# Altium integrated library Capacitor - Ceramic - Sumsung.IntLib: 1421 symbols (part 12 of 22)
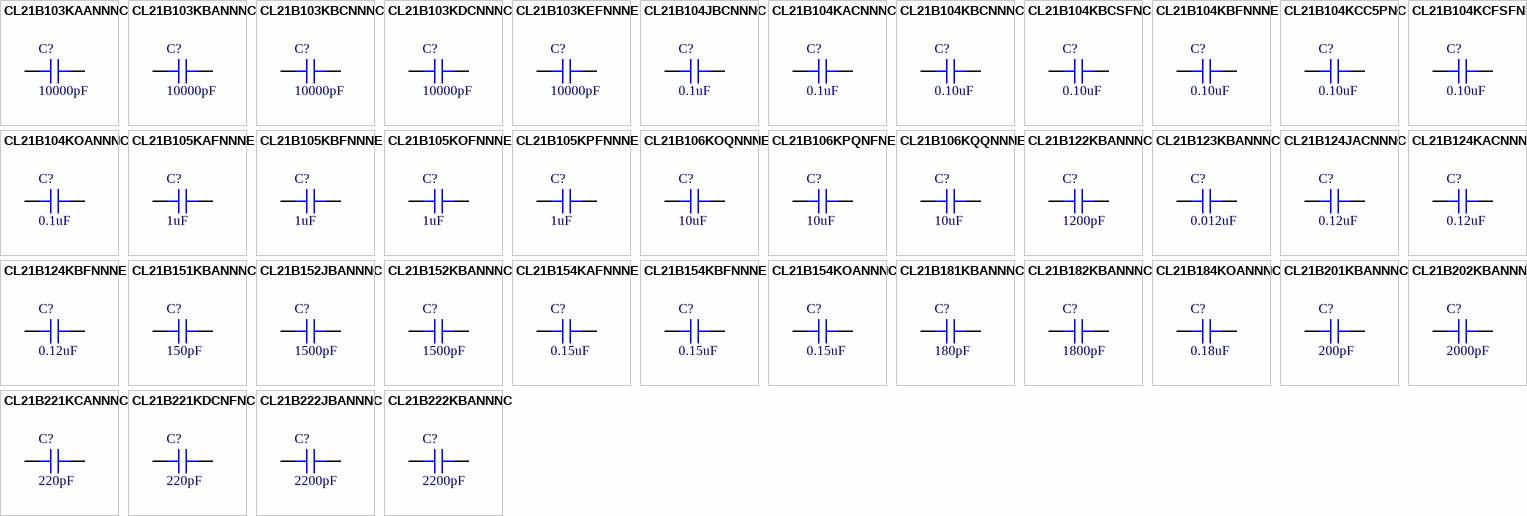
[diagram p46: symbols CL21B103KAANNNC to CL21B222KBANNNC]

## CL21B105KPFNNNE
designator C?, comment 1uF
CAP CER 1UF 10V X7R 0805; Part Number: CL21B105KPFNNNE; Manufacturer: Samsung Electro-Mechanics America, Inc.; TemperatureRange: -55C ~ 125C; Tolerance: 10%; Value: 1uF; PartId: 5813; Supplier 1: Digi-Key; Supplier Part Number 1: 1276-1275-2-ND; ComponentLink1Description: Datasheet; ComponentLink1URL: http://www.samsungsem.com/kr/support/product-search/mlcc/CL21B105KPFNNNE.jsp; ComponentLink2Description: Digi-Key listing; ComponentLink2URL: http://digikey.com/product-detail/en/CL21B105KPFNNNE/1276-1275-2-ND/3886933; TemperatureCoefficient: X7R; Voltage: 10V; Price: 0.0197; Type: -; Device Package: 0805 (2012 Metric)
footprint CAP 0805/2012
pins: 1, 2

## CL21B106KOQNNNE
designator C?, comment 10uF
CAP CER 10UF 16V X7R 0805; Part Number: CL21B106KOQNNNE; Manufacturer: Samsung Electro-Mechanics America, Inc.; TemperatureRange: -55C ~ 125C; Tolerance: 10%; Value: 10uF; PartId: 6056; Supplier 1: Digi-Key; Supplier Part Number 1: 1276-2872-2-ND; ComponentLink1Description: Datasheet; ComponentLink1URL: http://www.samsungsem.com/kr/support/product-search/mlcc/CL21B106KOQNNNE.jsp; ComponentLink2Description: Digi-Key listing; ComponentLink2URL: http://digikey.com/product-detail/en/CL21B106KOQNNNE/1276-2872-2-ND/3888530; TemperatureCoefficient: X7R; Voltage: 16V; Price: 0.0886; Type: -; Device Package: 0805 (2012 Metric)
footprint CAP 0805/2012
pins: 1, 2

## CL21B106KPQNFNE
designator C?, comment 10uF
CAP CER 10UF 10V X7R 0805; Part Number: CL21B106KPQNFNE; Manufacturer: Samsung Electro-Mechanics America, Inc.; TemperatureRange: -55C ~ 125C; Tolerance: 10%; Value: 10uF; PartId: 14141; Supplier 1: Digi-Key; Supplier Part Number 1: 1276-2934-2-ND; ComponentLink1Description: Datasheet; ComponentLink1URL: //media.digikey.com/pdf/Data%20Sheets/Samsung%20PDFs/CL21B106KPQNFNE_Spec.pdf; ComponentLink2Description: Digi-Key Listing; ComponentLink2URL: https://www.digikey.com/product-detail/en/samsung-electro-mechanics-america-inc/CL21B106KPQNFNE/1276-2934-2-ND/3888592; TemperatureCoefficient: X7R; Voltage: 10V; Price: 0.06; Device Package: 0805 (2012 Metric)
footprint CAP 0805/2012
pins: 1, 2

## CL21B106KQQNNNE
designator C?, comment 10uF
CAP CER 10UF 6.3V X7R 0805; Part Number: CL21B106KQQNNNE; Manufacturer: Samsung Electro-Mechanics America, Inc.; TemperatureRange: -55C ~ 125C; Tolerance: 10%; Value: 10uF; PartId: 14282; Supplier 1: Digi-Key; Supplier Part Number 1: 1276-1113-2-ND; ComponentLink1Description: Datasheet; ComponentLink1URL: http://www.samsungsem.com/kr/front/downloadcms.do?path=/kr/support/product-search/mlcc/__icsFiles/afieldfile/2014/11/05&fileName=C_CL21B106KQQNNNE.pdf; ComponentLink2Description: Digi-Key Listing; ComponentLink2URL: https://www.digikey.com/product-detail/en/samsung-electro-mechanics-america-inc/CL21B106KQQNNNE/1276-1113-2-ND/3886771; TemperatureCoefficient: X7R; Voltage: 6.3V; Price: 0.0488; Device Package: 0805 (2012 Metric)
footprint CAP 0805/2012
pins: 1, 2

## CL21B122KBANNNC
designator C?, comment 1200pF
CAP CER 1200PF 50V X7R 0805; Part Number: CL21B122KBANNNC; Manufacturer: Samsung Electro-Mechanics America, Inc.; TemperatureRange: -55C ~ 125C; Tolerance: 10%; Value: 1200pF; PartId: 5743; Supplier 1: Digi-Key; Supplier Part Number 1: 1276-2453-2-ND; ComponentLink1Description: Datasheet; ComponentLink1URL: http://media.digikey.com/pdf/Data%20Sheets/Samsung%20PDFs/CL21B122KBANNNC_Spec.pdf; ComponentLink2Description: Digi-Key listing; ComponentLink2URL: http://digikey.com/product-detail/en/CL21B122KBANNNC/1276-2453-2-ND/3888111; TemperatureCoefficient: X7R; Voltage: 50V; Price: 0.0153; Type: -; Device Package: 0805 (2012 Metric)
footprint CAP 0805/2012
pins: 1, 2

## CL21B123KBANNNC
designator C?, comment 0.012uF
CAP CER 0.012UF 50V X7R 0805; Part Number: CL21B123KBANNNC; Manufacturer: Samsung Electro-Mechanics America, Inc.; TemperatureRange: -55C ~ 125C; Tolerance: 10%; Value: 0.012uF; PartId: 5822; Supplier 1: Digi-Key; Supplier Part Number 1: 1276-2454-2-ND; ComponentLink1Description: Datasheet; ComponentLink1URL: http://media.digikey.com/pdf/Data%20Sheets/Samsung%20PDFs/CL21B123KBANNNC_Spec.pdf; ComponentLink2Description: Digi-Key listing; ComponentLink2URL: http://digikey.com/product-detail/en/CL21B123KBANNNC/1276-2454-2-ND/3888112; TemperatureCoefficient: X7R; Voltage: 50V; Price: 0.0214; Type: -; Device Package: 0805 (2012 Metric)
footprint CAP 0805/2012
pins: 1, 2

## CL21B124JACNNNC
designator C?, comment 0.12uF
CAP CER 0.12UF 25V X7R 0805; Part Number: CL21B124JACNNNC; Manufacturer: Samsung Electro-Mechanics America, Inc.; TemperatureRange: -55C ~ 125C; Tolerance: 5%; Value: 0.12uF; PartId: 5837; Supplier 1: Digi-Key; Supplier Part Number 1: 1276-2455-2-ND; ComponentLink1Description: Datasheet; ComponentLink1URL: http://media.digikey.com/pdf/Data%20Sheets/Samsung%20PDFs/CL21B124JACNNNC_Spec.pdf; ComponentLink2Description: Digi-Key listing; ComponentLink2URL: http://digikey.com/product-detail/en/CL21B124JACNNNC/1276-2455-2-ND/3888113; TemperatureCoefficient: X7R; Voltage: 25V; Price: 0.0235; Type: -; Device Package: 0805 (2012 Metric)
footprint CAP 0805/2012
pins: 1, 2

## CL21B124KACNNNC
designator C?, comment 0.12uF
CAP CER 0.12UF 25V X7R 0805; Part Number: CL21B124KACNNNC; Manufacturer: Samsung Electro-Mechanics America, Inc.; TemperatureRange: -55C ~ 125C; Tolerance: 10%; Value: 0.12uF; PartId: 5909; Supplier 1: Digi-Key; Supplier Part Number 1: 1276-2456-2-ND; ComponentLink1Description: Datasheet; ComponentLink1URL: http://media.digikey.com/pdf/Data%20Sheets/Samsung%20PDFs/CL21B124KACNNNC_Spec.pdf; ComponentLink2Description: Digi-Key listing; ComponentLink2URL: http://digikey.com/product-detail/en/CL21B124KACNNNC/1276-2456-2-ND/3888114; TemperatureCoefficient: X7R; Voltage: 25V; Price: 0.0362; Type: -; Device Package: 0805 (2012 Metric)
footprint CAP 0805/2012
pins: 1, 2

## CL21B124KBFNNNE
designator C?, comment 0.12uF
CAP CER 0.12UF 50V X7R 0805; Part Number: CL21B124KBFNNNE; Manufacturer: Samsung Electro-Mechanics America, Inc.; TemperatureRange: -55C ~ 125C; Tolerance: 10%; Value: 0.12uF; PartId: 5927; Supplier 1: Digi-Key; Supplier Part Number 1: 1276-2936-2-ND; ComponentLink1Description: Datasheet; ComponentLink1URL: http://media.digikey.com/pdf/Data%20Sheets/Samsung%20PDFs/CL21B124KBFNNNE_Spec.pdf; ComponentLink2Description: Digi-Key listing; ComponentLink2URL: http://digikey.com/product-detail/en/CL21B124KBFNNNE/1276-2936-2-ND/3888594; TemperatureCoefficient: X7R; Voltage: 50V; Price: 0.0417; Type: -; Device Package: 0805 (2012 Metric)
footprint CAP 0805/2012
pins: 1, 2

## CL21B151KBANNNC
designator C?, comment 150pF
CAP CER 150PF 50V X7R 0805; Part Number: CL21B151KBANNNC; Manufacturer: Samsung Electro-Mechanics America, Inc.; TemperatureRange: -55C ~ 125C; Tolerance: 10%; Value: 150pF; PartId: 5786; Supplier 1: Digi-Key; Supplier Part Number 1: 1276-2457-2-ND; ComponentLink1Description: Datasheet; ComponentLink1URL: http://media.digikey.com/pdf/Data%20Sheets/Samsung%20PDFs/CL21B151KBANNNC_character.pdf; ComponentLink2Description: Digi-Key listing; ComponentLink2URL: http://digikey.com/product-detail/en/CL21B151KBANNNC/1276-2457-2-ND/3888115; TemperatureCoefficient: X7R; Voltage: 50V; Price: 0.0173; Type: -; Device Package: 0805 (2012 Metric)
footprint CAP 0805/2012
pins: 1, 2

## CL21B152JBANNNC
designator C?, comment 1500pF
CAP CER 1500PF 50V X7R 0805; Part Number: CL21B152JBANNNC; Manufacturer: Samsung Electro-Mechanics America, Inc.; TemperatureRange: -55C ~ 125C; Tolerance: 5%; Value: 1500pF; PartId: 5861; Supplier 1: Digi-Key; Supplier Part Number 1: 1276-2458-2-ND; ComponentLink1Description: Datasheet; ComponentLink1URL: http://www.samsungsem.com/kr/front/downloadcms.do?path=/kr/support/product-search/mlcc/__icsFiles/afieldfile/2014/11/05&fileName=C_CL21B152JBANNNC.pdf; ComponentLink2Description: Digi-Key listing; ComponentLink2URL: http://digikey.com/product-detail/en/CL21B152JBANNNC/1276-2458-2-ND/3888116; TemperatureCoefficient: X7R; Voltage: 50V; Price: 0.0275; Type: -; Device Package: 0805 (2012 Metric)
footprint CAP 0805/2012
pins: 1, 2

## CL21B152KBANNNC
designator C?, comment 1500pF
CAP CER 1500PF 50V X7R 0805; Part Number: CL21B152KBANNNC; Manufacturer: Samsung Electro-Mechanics America, Inc.; TemperatureRange: -55C ~ 125C; Tolerance: 10%; Value: 1500pF; PartId: 5734; Supplier 1: Digi-Key; Supplier Part Number 1: 1276-1794-2-ND; ComponentLink1Description: Datasheet; ComponentLink1URL: http://www.samsungsem.com/kr/front/downloadcms.do?path=/kr/support/product-search/mlcc/__icsFiles/afieldfile/2014/11/05&fileName=C_CL21B152KBANNNC.pdf; ComponentLink2Description: Digi-Key listing; ComponentLink2URL: http://digikey.com/product-detail/en/CL21B152KBANNNC/1276-1794-2-ND/3887452; TemperatureCoefficient: X7R; Voltage: 50V; Price: 0.015; Type: -; Device Package: 0805 (2012 Metric)
footprint CAP 0805/2012
pins: 1, 2

## CL21B154KAFNNNE
designator C?, comment 0.15uF
CAP CER 0.15UF 25V X7R 0805; Part Number: CL21B154KAFNNNE; Manufacturer: Samsung Electro-Mechanics America, Inc.; TemperatureRange: -55C ~ 125C; Tolerance: 10%; Value: 0.15uF; PartId: 5892; Supplier 1: Digi-Key; Supplier Part Number 1: 1276-2937-2-ND; ComponentLink1Description: Datasheet; ComponentLink1URL: http://media.digikey.com/pdf/Data%20Sheets/Samsung%20PDFs/CL21B154KAFNNNE_Spec.pdf; ComponentLink2Description: Digi-Key listing; ComponentLink2URL: http://digikey.com/product-detail/en/CL21B154KAFNNNE/1276-2937-2-ND/3888595; TemperatureCoefficient: X7R; Voltage: 25V; Price: 0.0337; Type: -; Device Package: 0805 (2012 Metric)
footprint CAP 0805/2012
pins: 1, 2

## CL21B154KBFNNNE
designator C?, comment 0.15uF
CAP CER 0.15UF 50V X7R 0805; Part Number: CL21B154KBFNNNE; Manufacturer: Samsung Electro-Mechanics America, Inc.; TemperatureRange: -55C ~ 125C; Tolerance: 10%; Value: 0.15uF; PartId: 13832; Supplier 1: Digi-Key; Supplier Part Number 1: 1276-1299-2-ND; ComponentLink1Description: Datasheet; ComponentLink1URL: http://www.samsungsem.com/kr/front/downloadcms.do?path=/kr/support/product-search/mlcc/__icsFiles/afieldfile/2014/11/05&fileName=C_CL21B154KBFNNNE.pdf; ComponentLink2Description: Digi-Key Listing; ComponentLink2URL: https://www.digikey.com/product-detail/en/samsung-electro-mechanics-america-inc/CL21B154KBFNNNE/1276-1299-2-ND/3886957; TemperatureCoefficient: X7R; Voltage: 50V; Price: 0.0235; Device Package: 0805 (2012 Metric)
footprint CAP 0805/2012
pins: 1, 2

## CL21B154KOANNNC
designator C?, comment 0.15uF
CAP CER 0.15UF 16V X7R 0805; Part Number: CL21B154KOANNNC; Manufacturer: Samsung Electro-Mechanics America, Inc.; TemperatureRange: -55C ~ 125C; Tolerance: 10%; Value: 0.15uF; PartId: 5879; Supplier 1: Digi-Key; Supplier Part Number 1: 1276-2463-2-ND; ComponentLink1Description: Datasheet; ComponentLink1URL: http://media.digikey.com/pdf/Data%20Sheets/Samsung%20PDFs/CL21B154KOANNNC_Spec.pdf; ComponentLink2Description: Digi-Key listing; ComponentLink2URL: http://digikey.com/product-detail/en/CL21B154KOANNNC/1276-2463-2-ND/3888121; TemperatureCoefficient: X7R; Voltage: 16V; Price: 0.0308; Type: -; Device Package: 0805 (2012 Metric)
footprint CAP 0805/2012
pins: 1, 2

## CL21B181KBANNNC
designator C?, comment 180pF
CAP CER 180PF 50V X7R 0805; Part Number: CL21B181KBANNNC; Manufacturer: Samsung Electro-Mechanics America, Inc.; TemperatureRange: -55C ~ 125C; Tolerance: 10%; Value: 180pF; PartId: 5667; Supplier 1: Digi-Key; Supplier Part Number 1: 1276-2464-2-ND; ComponentLink1Description: Datasheet; ComponentLink1URL: http://media.digikey.com/pdf/Data%20Sheets/Samsung%20PDFs/CL21B181KBANNNC_character.pdf; ComponentLink2Description: Digi-Key listing; ComponentLink2URL: http://digikey.com/product-detail/en/CL21B181KBANNNC/1276-2464-2-ND/3888122; TemperatureCoefficient: X7R; Voltage: 50V; Price: 0.0051; Type: -; Device Package: 0805 (2012 Metric)
footprint CAP 0805/2012
pins: 1, 2

## CL21B182KBANNNC
designator C?, comment 1800pF
CAP CER 1800PF 50V X7R 0805; Part Number: CL21B182KBANNNC; Manufacturer: Samsung Electro-Mechanics America, Inc.; TemperatureRange: -55C ~ 125C; Tolerance: 10%; Value: 1800pF; PartId: 5741; Supplier 1: Digi-Key; Supplier Part Number 1: 1276-2465-2-ND; ComponentLink1Description: Datasheet; ComponentLink1URL: http://media.digikey.com/pdf/Data%20Sheets/Samsung%20PDFs/CL21B182KBANNNC_Spec.pdf; ComponentLink2Description: Digi-Key listing; ComponentLink2URL: http://digikey.com/product-detail/en/CL21B182KBANNNC/1276-2465-2-ND/3888123; TemperatureCoefficient: X7R; Voltage: 50V; Price: 0.0153; Type: -; Device Package: 0805 (2012 Metric)
footprint CAP 0805/2012
pins: 1, 2

## CL21B184KOANNNC
designator C?, comment 0.18uF
CAP CER 0.18UF 16V X7R 0805; Part Number: CL21B184KOANNNC; Manufacturer: Samsung Electro-Mechanics America, Inc.; TemperatureRange: -55C ~ 125C; Tolerance: 10%; Value: 0.18uF; PartId: 5901; Supplier 1: Digi-Key; Supplier Part Number 1: 1276-2469-2-ND; ComponentLink1Description: Datasheet; ComponentLink1URL: http://media.digikey.com/pdf/Data%20Sheets/Samsung%20PDFs/CL21B184KOANNNC_character.pdf; ComponentLink2Description: Digi-Key listing; ComponentLink2URL: http://digikey.com/product-detail/en/CL21B184KOANNNC/1276-2469-2-ND/3888127; TemperatureCoefficient: X7R; Voltage: 16V; Price: 0.0351; Type: -; Device Package: 0805 (2012 Metric)
footprint CAP 0805/2012
pins: 1, 2

## CL21B201KBANNNC
designator C?, comment 200pF
CAP CER 200PF 50V X7R 0805; Part Number: CL21B201KBANNNC; Manufacturer: Samsung Electro-Mechanics America, Inc.; TemperatureRange: -55C ~ 125C; Tolerance: 10%; Value: 200pF; PartId: 5681; Supplier 1: Digi-Key; Supplier Part Number 1: 1276-2470-2-ND; ComponentLink1Description: Datasheet; ComponentLink1URL: http://www.samsungsem.com/kr/support/product-search/mlcc/CL21B201KBANNNC.jsp; ComponentLink2Description: Digi-Key listing; ComponentLink2URL: http://digikey.com/product-detail/en/CL21B201KBANNNC/1276-2470-2-ND/3888128; TemperatureCoefficient: X7R; Voltage: 50V; Price: 0.0059; Type: -; Device Package: 0805 (2012 Metric)
footprint CAP 0805/2012
pins: 1, 2

## CL21B202KBANNNC
designator C?, comment 2000pF
CAP CER 2000PF 50V X7R 0805; Part Number: CL21B202KBANNNC; Manufacturer: Samsung Electro-Mechanics America, Inc.; TemperatureRange: -55C ~ 125C; Tolerance: 10%; Value: 2000pF; PartId: 5740; Supplier 1: Digi-Key; Supplier Part Number 1: 1276-2471-2-ND; ComponentLink1Description: Datasheet; ComponentLink1URL: http://www.samsungsem.com/kr/support/product-search/mlcc/CL21B202KBANNNC.jsp; ComponentLink2Description: Digi-Key listing; ComponentLink2URL: http://digikey.com/product-detail/en/CL21B202KBANNNC/1276-2471-2-ND/3888129; TemperatureCoefficient: X7R; Voltage: 50V; Price: 0.0153; Type: -; Device Package: 0805 (2012 Metric)
footprint CAP 0805/2012
pins: 1, 2

## CL21B221KCANNNC
designator C?, comment 220pF
CAP CER 220PF 100V X7R 0805; Part Number: CL21B221KCANNNC; Manufacturer: Samsung Electro-Mechanics America, Inc.; TemperatureRange: -55C ~ 125C; Tolerance: 10%; Value: 220pF; PartId: 5845; Supplier 1: Digi-Key; Supplier Part Number 1: 1276-2476-2-ND; ComponentLink1Description: Datasheet; ComponentLink1URL: http://media.digikey.com/pdf/Data%20Sheets/Samsung%20PDFs/CL21B221KCANNNC_Spec.pdf; ComponentLink2Description: Digi-Key listing; ComponentLink2URL: http://digikey.com/product-detail/en/CL21B221KCANNNC/1276-2476-2-ND/3888134; TemperatureCoefficient: X7R; Voltage: 100V; Price: 0.0244; Type: -; Device Package: 0805 (2012 Metric)
footprint CAP 0805/2012
pins: 1, 2

## CL21B221KDCNFNC
designator C?, comment 220pF
CAP CER 220PF 200V X7R 0805; Part Number: CL21B221KDCNFNC; Manufacturer: Samsung Electro-Mechanics America, Inc.; TemperatureRange: -55C ~ 125C; Tolerance: 10%; Value: 220pF; PartId: 5810; Supplier 1: Digi-Key; Supplier Part Number 1: 1276-2477-2-ND; ComponentLink1Description: Datasheet; ComponentLink1URL: http://media.digikey.com/pdf/Data%20Sheets/Samsung%20PDFs/CL21B221KDCNFNC_Spec.pdf; ComponentLink2Description: Digi-Key listing; ComponentLink2URL: http://digikey.com/product-detail/en/CL21B221KDCNFNC/1276-2477-2-ND/3888135; TemperatureCoefficient: X7R; Voltage: 200V; Price: 0.0194; Type: -; Device Package: 0805 (2012 Metric)
footprint CAP 0805/2012
pins: 1, 2

## CL21B222JBANNNC
designator C?, comment 2200pF
CAP CER 2200PF 50V X7R 0805; Part Number: CL21B222JBANNNC; Manufacturer: Samsung Electro-Mechanics America, Inc.; TemperatureRange: -55C ~ 125C; Tolerance: 5%; Value: 2200pF; PartId: 5857; Supplier 1: Digi-Key; Supplier Part Number 1: 1276-2478-2-ND; ComponentLink1Description: Datasheet; ComponentLink1URL: http://www.samsungsem.com/kr/support/product-search/mlcc/CL21B222JBANNNC.jsp; ComponentLink2Description: Digi-Key listing; ComponentLink2URL: http://digikey.com/product-detail/en/CL21B222JBANNNC/1276-2478-2-ND/3888136; TemperatureCoefficient: X7R; Voltage: 50V; Price: 0.0263; Type: -; Device Package: 0805 (2012 Metric)
footprint CAP 0805/2012
pins: 1, 2

## CL21B222KBANNNC
designator C?, comment 2200pF
CAP CER 2200PF 50V X7R 0805; Part Number: CL21B222KBANNNC; Manufacturer: Samsung Electro-Mechanics America, Inc.; TemperatureRange: -55C ~ 125C; Tolerance: 10%; Value: 2200pF; PartId: 13843; Supplier 1: Digi-Key; Supplier Part Number 1: 1276-1171-2-ND; ComponentLink1Description: Datasheet; ComponentLink1URL: http://www.samsungsem.com/kr/support/product-search/mlcc/CL21B222KBANNNC.jsp; ComponentLink2Description: Digi-Key Listing; ComponentLink2URL: https://www.digikey.com/product-detail/en/samsung-electro-mechanics-america-inc/CL21B222KBANNNC/1276-1171-2-ND/3886829; TemperatureCoefficient: X7R; Voltage: 50V; Price: 0.0078; Device Package: 0805 (2012 Metric)
footprint CAP 0805/2012
pins: 1, 2

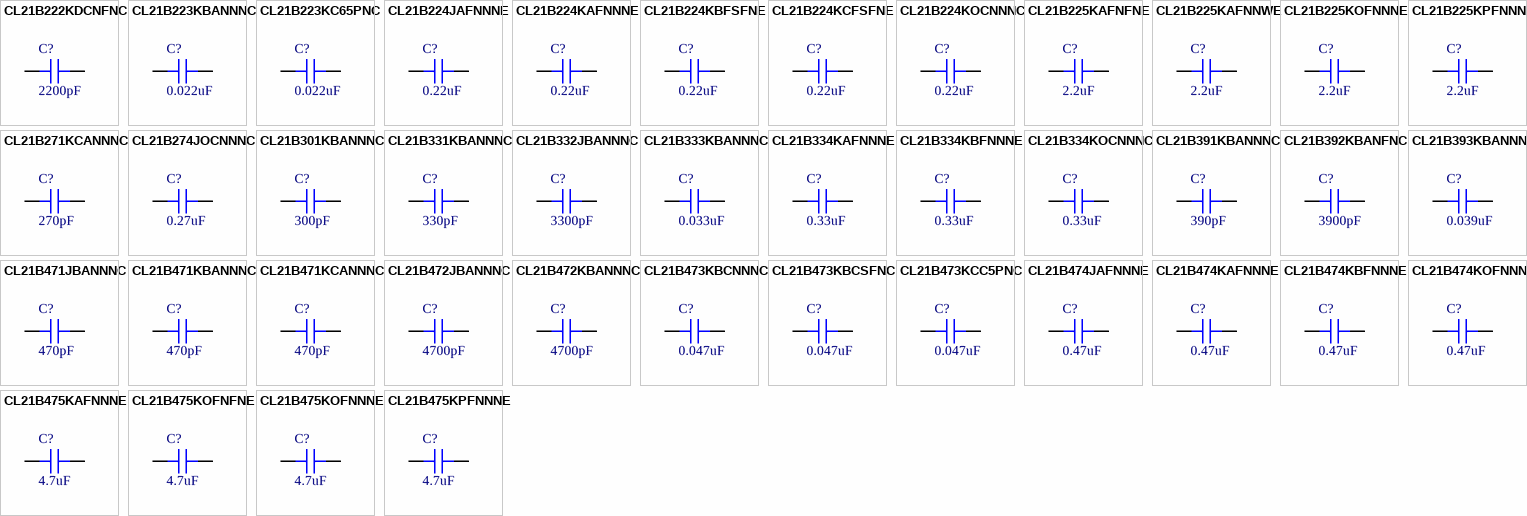
[diagram p19: symbols CL21B222KDCNFNC to CL21B475KPFNNNE]

## CL21B222KDCNFNC
designator C?, comment 2200pF
CAP CER 2200PF 200V X7R 0805; Part Number: CL21B222KDCNFNC; Manufacturer: Samsung Electro-Mechanics America, Inc.; TemperatureRange: -55C ~ 125C; Tolerance: 10%; Value: 2200pF; PartId: 5757; Supplier 1: Digi-Key; Supplier Part Number 1: 1276-2484-2-ND; ComponentLink1Description: Datasheet; ComponentLink1URL: http://media.digikey.com/pdf/Data%20Sheets/Samsung%20PDFs/CL21B222KDCNFNC_Spec.pdf; ComponentLink2Description: Digi-Key listing; ComponentLink2URL: http://digikey.com/product-detail/en/CL21B222KDCNFNC/1276-2484-2-ND/3888142; TemperatureCoefficient: X7R; Voltage: 200V; Price: 0.0163; Type: -; Device Package: 0805 (2012 Metric)
footprint CAP 0805/2012
pins: 1, 2

## CL21B223KBANNNC
designator C?, comment 0.022uF
CAP CER 0.022UF 50V X7R 0805; Part Number: CL21B223KBANNNC; Manufacturer: Samsung Electro-Mechanics America, Inc.; TemperatureRange: -55C ~ 125C; Tolerance: 10%; Value: 0.022uF; PartId: 13931; Supplier 1: Digi-Key; Supplier Part Number 1: 1276-1081-2-ND; ComponentLink1Description: Datasheet; ComponentLink1URL: http://www.samsungsem.com/kr/support/product-search/mlcc/CL21B223KBANNNC.jsp; ComponentLink2Description: Digi-Key Listing; ComponentLink2URL: https://www.digikey.com/product-detail/en/samsung-electro-mechanics-america-inc/CL21B223KBANNNC/1276-1081-2-ND/3886739; TemperatureCoefficient: X7R; Voltage: 50V; Price: 0.0121; Device Package: 0805 (2012 Metric)
footprint CAP 0805/2012
pins: 1, 2

## CL21B223KC65PNC
designator C?, comment 0.022uF
CAP CER 0.022UF 100V X7R 0805; Part Number: CL21B223KC65PNC; Manufacturer: Samsung Electro-Mechanics America, Inc.; TemperatureRange: -55C ~ 125C; Tolerance: 10%; Value: 0.022uF; PartId: 13867; Supplier 1: Digi-Key; Supplier Part Number 1: 1276-2491-2-ND; ComponentLink1Description: Datasheet; ComponentLink1URL: //media.digikey.com/pdf/Data%20Sheets/Samsung%20PDFs/CL21B223KC65PNC_Spec.pdf; ComponentLink2Description: Digi-Key Listing; ComponentLink2URL: https://www.digikey.com/product-detail/en/samsung-electro-mechanics-america-inc/CL21B223KC65PNC/1276-2491-2-ND/3888149; TemperatureCoefficient: X7R; Voltage: 100V; Price: 0.0119; Device Package: 0805 (2012 Metric)
footprint CAP 0805/2012
pins: 1, 2

## CL21B224JAFNNNE
designator C?, comment 0.22uF
CAP CER 0.22UF 25V X7R 0805; Part Number: CL21B224JAFNNNE; Manufacturer: Samsung Electro-Mechanics America, Inc.; TemperatureRange: -55C ~ 125C; Tolerance: 5%; Value: 0.22uF; PartId: 6051; Supplier 1: Digi-Key; Supplier Part Number 1: 1276-2943-2-ND; ComponentLink1Description: Datasheet; ComponentLink1URL: http://www.samsungsem.com/kr/support/product-search/mlcc/CL21B224JAFNNNE.jsp; ComponentLink2Description: Digi-Key listing; ComponentLink2URL: http://digikey.com/product-detail/en/CL21B224JAFNNNE/1276-2943-2-ND/3888601; TemperatureCoefficient: X7R; Voltage: 25V; Price: 0.0831; Type: -; Device Package: 0805 (2012 Metric)
footprint CAP 0805/2012
pins: 1, 2

## CL21B224KAFNNNE
designator C?, comment 0.22uF
CAP CER 0.22UF 25V X7R 0805; Part Number: CL21B224KAFNNNE; Manufacturer: Samsung Electro-Mechanics America, Inc.; TemperatureRange: -55C ~ 125C; Tolerance: 10%; Value: 0.22uF; PartId: 5865; Supplier 1: Digi-Key; Supplier Part Number 1: 1276-1161-2-ND; ComponentLink1Description: Datasheet; ComponentLink1URL: http://www.samsungsem.com/kr/support/product-search/mlcc/CL21B224KAFNNNE.jsp; ComponentLink2Description: Digi-Key listing; ComponentLink2URL: http://digikey.com/product-detail/en/CL21B224KAFNNNE/1276-1161-2-ND/3886819; TemperatureCoefficient: X7R; Voltage: 25V; Price: 0.028; Type: -; Device Package: 0805 (2012 Metric)
footprint CAP 0805/2012
pins: 1, 2

## CL21B224KBFSFNE
designator C?, comment 0.22uF
CAP CER 0.22UF 50V X7R 0805; Part Number: CL21B224KBFSFNE; Manufacturer: Samsung Electro-Mechanics America, Inc.; TemperatureRange: -55C ~ 125C; Tolerance: 10%; Value: 0.22uF; PartId: 13765; Supplier 1: Digi-Key; Supplier Part Number 1: 1276-2948-2-ND; ComponentLink1Description: Datasheet; ComponentLink1URL: //media.digikey.com/pdf/Data%20Sheets/Samsung%20PDFs/CL21B224KBFSFNE_Spec.pdf; ComponentLink2Description: Digi-Key Listing; ComponentLink2URL: https://www.digikey.com/product-detail/en/samsung-electro-mechanics-america-inc/CL21B224KBFSFNE/1276-2948-2-ND/3888606; TemperatureCoefficient: X7R; Voltage: 50V; Price: 0.0195; Device Package: 0805 (2012 Metric)
footprint CAP 0805/2012
pins: 1, 2

## CL21B224KCFSFNE
designator C?, comment 0.22uF
CAP CER 0.22UF 100V X7R 0805; Part Number: CL21B224KCFSFNE; Manufacturer: Samsung Electro-Mechanics America, Inc.; TemperatureRange: -55C ~ 125C; Tolerance: 10%; Value: 0.22uF; PartId: 6023; Supplier 1: Digi-Key; Supplier Part Number 1: 1276-2949-2-ND; ComponentLink1Description: Datasheet; ComponentLink1URL: http://media.digikey.com/pdf/Data%20Sheets/Samsung%20PDFs/CL21B224KCFSFNE_Spec.pdf; ComponentLink2Description: Digi-Key listing; ComponentLink2URL: http://digikey.com/product-detail/en/CL21B224KCFSFNE/1276-2949-2-ND/3888607; TemperatureCoefficient: X7R; Voltage: 100V; Price: 0.0736; Type: -; Device Package: 0805 (2012 Metric)
footprint CAP 0805/2012
pins: 1, 2

## CL21B224KOCNNNC
designator C?, comment 0.22uF
CAP CER 0.22UF 16V X7R 0805; Part Number: CL21B224KOCNNNC; Manufacturer: Samsung Electro-Mechanics America, Inc.; TemperatureRange: -55C ~ 125C; Tolerance: 10%; Value: 0.22uF; PartId: 5855; Supplier 1: Digi-Key; Supplier Part Number 1: 1276-1284-2-ND; ComponentLink1Description: Datasheet; ComponentLink1URL: http://www.samsungsem.com/kr/support/product-search/mlcc/CL21B224KOCNNNC.jsp; ComponentLink2Description: Digi-Key listing; ComponentLink2URL: http://digikey.com/product-detail/en/CL21B224KOCNNNC/1276-1284-2-ND/3886942; TemperatureCoefficient: X7R; Voltage: 16V; Price: 0.0256; Type: -; Device Package: 0805 (2012 Metric)
footprint CAP 0805/2012
pins: 1, 2

## CL21B225KAFNFNE
designator C?, comment 2.2uF
CAP CER 2.2UF 25V X7R 0805; Part Number: CL21B225KAFNFNE; Manufacturer: Samsung Electro-Mechanics America, Inc.; TemperatureRange: -55C ~ 125C; Tolerance: 10%; Value: 2.2uF; PartId: 14062; Supplier 1: Digi-Key; Supplier Part Number 1: 1276-2953-2-ND; ComponentLink1Description: Datasheet; ComponentLink1URL: //media.digikey.com/pdf/Data%20Sheets/Samsung%20PDFs/CL21B225KAFNFNE_Spec.pdf; ComponentLink2Description: Digi-Key Listing; ComponentLink2URL: https://www.digikey.com/product-detail/en/samsung-electro-mechanics-america-inc/CL21B225KAFNFNE/1276-2953-2-ND/3888611; TemperatureCoefficient: X7R; Voltage: 25V; Price: 0.0374; Device Package: 0805 (2012 Metric)
footprint CAP 0805/2012
pins: 1, 2

## CL21B225KAFNNWE
designator C?, comment 2.2uF
CAP CER 2.2UF 25V X7R 0805; Part Number: CL21B225KAFNNWE; Manufacturer: Samsung Electro-Mechanics America, Inc.; TemperatureRange: -55C ~ 125C; Tolerance: 10%; Value: 2.2uF; PartId: 13943; Supplier 1: Digi-Key; Supplier Part Number 1: 1276-2955-2-ND; ComponentLink1Description: Datasheet; ComponentLink1URL: //media.digikey.com/pdf/Data%20Sheets/Samsung%20PDFs/CL21B225KAFNNWE_Spec.pdf; ComponentLink2Description: Digi-Key Listing; ComponentLink2URL: https://www.digikey.com/product-detail/en/samsung-electro-mechanics-america-inc/CL21B225KAFNNWE/1276-2955-2-ND/3888613; TemperatureCoefficient: X7R; Voltage: 25V; Price: 0.0374; Device Package: 0805 (2012 Metric)
footprint CAP 0805/2012
pins: 1, 2

## CL21B225KOFNNNE
designator C?, comment 2.2uF
CAP CER 2.2UF 16V X7R 0805; Part Number: CL21B225KOFNNNE; Manufacturer: Samsung Electro-Mechanics America, Inc.; TemperatureRange: -55C ~ 125C; Tolerance: 10%; Value: 2.2uF; PartId: 13949; Supplier 1: Digi-Key; Supplier Part Number 1: 1276-1162-2-ND; ComponentLink1Description: Datasheet; ComponentLink1URL: http://www.samsungsem.com/kr/support/product-search/mlcc/CL21B225KOFNNNE.jsp; ComponentLink2Description: Digi-Key Listing; ComponentLink2URL: https://www.digikey.com/product-detail/en/samsung-electro-mechanics-america-inc/CL21B225KOFNNNE/1276-1162-2-ND/3886820; TemperatureCoefficient: X7R; Voltage: 16V; Price: 0.033; Device Package: 0805 (2012 Metric)
footprint CAP 0805/2012
pins: 1, 2

## CL21B225KPFNNNE
designator C?, comment 2.2uF
CAP CER 2.2UF 10V X7R 0805; Part Number: CL21B225KPFNNNE; Manufacturer: Samsung Electro-Mechanics America, Inc.; TemperatureRange: -55C ~ 125C; Tolerance: 10%; Value: 2.2uF; PartId: 5880; Supplier 1: Digi-Key; Supplier Part Number 1: 1276-1188-2-ND; ComponentLink1Description: Datasheet; ComponentLink1URL: http://www.samsungsem.com/kr/support/product-search/mlcc/CL21B225KPFNNNE.jsp; ComponentLink2Description: Digi-Key listing; ComponentLink2URL: http://digikey.com/product-detail/en/CL21B225KPFNNNE/1276-1188-2-ND/3886846; TemperatureCoefficient: X7R; Voltage: 10V; Price: 0.0314; Type: -; Device Package: 0805 (2012 Metric)
footprint CAP 0805/2012
pins: 1, 2

## CL21B271KCANNNC
designator C?, comment 270pF
CAP CER 270PF 100V X7R 0805; Part Number: CL21B271KCANNNC; Manufacturer: Samsung Electro-Mechanics America, Inc.; TemperatureRange: -55C ~ 125C; Tolerance: 10%; Value: 270pF; PartId: 5693; Supplier 1: Digi-Key; Supplier Part Number 1: 1276-2494-2-ND; ComponentLink1Description: Datasheet; ComponentLink1URL: http://media.digikey.com/pdf/Data%20Sheets/Samsung%20PDFs/CL21B271KCANNNC_Spec.pdf; ComponentLink2Description: Digi-Key listing; ComponentLink2URL: http://digikey.com/product-detail/en/CL21B271KCANNNC/1276-2494-2-ND/3888152; TemperatureCoefficient: X7R; Voltage: 100V; Price: 0.0078; Type: -; Device Package: 0805 (2012 Metric)
footprint CAP 0805/2012
pins: 1, 2

## CL21B274JOCNNNC
designator C?, comment 0.27uF
CAP CER 0.27UF 16V X7R 0805; Part Number: CL21B274JOCNNNC; Manufacturer: Samsung Electro-Mechanics America, Inc.; TemperatureRange: -55C ~ 125C; Tolerance: 5%; Value: 0.27uF; PartId: 5945; Supplier 1: Digi-Key; Supplier Part Number 1: 1276-2497-2-ND; ComponentLink1Description: Datasheet; ComponentLink1URL: http://www.samsungsem.com/kr/support/product-search/mlcc/CL21B274JOCNNNC.jsp; ComponentLink2Description: Digi-Key listing; ComponentLink2URL: http://digikey.com/product-detail/en/CL21B274JOCNNNC/1276-2497-2-ND/3888155; TemperatureCoefficient: X7R; Voltage: 16V; Price: 0.0457; Type: -; Device Package: 0805 (2012 Metric)
footprint CAP 0805/2012
pins: 1, 2

## CL21B301KBANNNC
designator C?, comment 300pF
CAP CER 300PF 50V X7R 0805; Part Number: CL21B301KBANNNC; Manufacturer: Samsung Electro-Mechanics America, Inc.; TemperatureRange: -55C ~ 125C; Tolerance: 10%; Value: 300pF; PartId: 5668; Supplier 1: Digi-Key; Supplier Part Number 1: 1276-2499-2-ND; ComponentLink1Description: Datasheet; ComponentLink1URL: http://www.samsungsem.com/kr/support/product-search/mlcc/CL21B301KBANNNC.jsp; ComponentLink2Description: Digi-Key listing; ComponentLink2URL: http://digikey.com/product-detail/en/CL21B301KBANNNC/1276-2499-2-ND/3888157; TemperatureCoefficient: X7R; Voltage: 50V; Price: 0.0051; Type: -; Device Package: 0805 (2012 Metric)
footprint CAP 0805/2012
pins: 1, 2

## CL21B331KBANNNC
designator C?, comment 330pF
CAP CER 330PF 50V X7R 0805; Part Number: CL21B331KBANNNC; Manufacturer: Samsung Electro-Mechanics America, Inc.; TemperatureRange: -55C ~ 125C; Tolerance: 10%; Value: 330pF; PartId: 5739; Supplier 1: Digi-Key; Supplier Part Number 1: 1276-1765-2-ND; ComponentLink1Description: Datasheet; ComponentLink1URL: http://www.samsungsem.com/kr/support/product-search/mlcc/CL21B331KBANNNC.jsp; ComponentLink2Description: Digi-Key listing; ComponentLink2URL: http://digikey.com/product-detail/en/CL21B331KBANNNC/1276-1765-2-ND/3887423; TemperatureCoefficient: X7R; Voltage: 50V; Price: 0.0153; Type: -; Device Package: 0805 (2012 Metric)
footprint CAP 0805/2012
pins: 1, 2

## CL21B332JBANNNC
designator C?, comment 3300pF
CAP CER 3300PF 50V X7R 0805; Part Number: CL21B332JBANNNC; Manufacturer: Samsung Electro-Mechanics America, Inc.; TemperatureRange: -55C ~ 125C; Tolerance: 5%; Value: 3300pF; PartId: 5858; Supplier 1: Digi-Key; Supplier Part Number 1: 1276-2501-2-ND; ComponentLink1Description: Datasheet; ComponentLink1URL: http://www.samsungsem.com/kr/support/product-search/mlcc/CL21B332JBANNNC.jsp; ComponentLink2Description: Digi-Key listing; ComponentLink2URL: http://digikey.com/product-detail/en/CL21B332JBANNNC/1276-2501-2-ND/3888159; TemperatureCoefficient: X7R; Voltage: 50V; Price: 0.0263; Type: -; Device Package: 0805 (2012 Metric)
footprint CAP 0805/2012
pins: 1, 2

## CL21B333KBANNNC
designator C?, comment 0.033uF
CAP CER 0.033UF 50V X7R 0805; Part Number: CL21B333KBANNNC; Manufacturer: Samsung Electro-Mechanics America, Inc.; TemperatureRange: -55C ~ 125C; Tolerance: 10%; Value: 0.033uF; PartId: 14023; Supplier 1: Digi-Key; Supplier Part Number 1: 1276-1796-2-ND; ComponentLink1Description: Datasheet; ComponentLink1URL: http://www.samsungsem.com/kr/support/product-search/mlcc/CL21B333KBANNNC.jsp; ComponentLink2Description: Digi-Key Listing; ComponentLink2URL: https://www.digikey.com/product-detail/en/samsung-electro-mechanics-america-inc/CL21B333KBANNNC/1276-1796-2-ND/3887454; TemperatureCoefficient: X7R; Voltage: 50V; Price: 0.0135; Device Package: 0805 (2012 Metric)
footprint CAP 0805/2012
pins: 1, 2

## CL21B334KAFNNNE
designator C?, comment 0.33uF
CAP CER 0.33UF 25V X7R 0805; Part Number: CL21B334KAFNNNE; Manufacturer: Samsung Electro-Mechanics America, Inc.; TemperatureRange: -55C ~ 125C; Tolerance: 10%; Value: 0.33uF; PartId: 5949; Supplier 1: Digi-Key; Supplier Part Number 1: 1276-1808-2-ND; ComponentLink1Description: Datasheet; ComponentLink1URL: http://www.samsungsem.com/kr/support/product-search/mlcc/CL21B334KAFNNNE.jsp; ComponentLink2Description: Digi-Key listing; ComponentLink2URL: http://digikey.com/product-detail/en/CL21B334KAFNNNE/1276-1808-2-ND/3887466; TemperatureCoefficient: X7R; Voltage: 25V; Price: 0.0473; Type: -; Device Package: 0805 (2012 Metric)
footprint CAP 0805/2012
pins: 1, 2

## CL21B334KBFNNNE
designator C?, comment 0.33uF
CAP CER 0.33UF 50V X7R 0805; Part Number: CL21B334KBFNNNE; Manufacturer: Samsung Electro-Mechanics America, Inc.; TemperatureRange: -55C ~ 125C; Tolerance: 10%; Value: 0.33uF; PartId: 13967; Supplier 1: Digi-Key; Supplier Part Number 1: 1276-1123-2-ND; ComponentLink1Description: Datasheet; ComponentLink1URL: http://www.samsungsem.com/kr/support/product-search/mlcc/CL21B334KBFNNNE.jsp; ComponentLink2Description: Digi-Key Listing; ComponentLink2URL: https://www.digikey.com/product-detail/en/samsung-electro-mechanics-america-inc/CL21B334KBFNNNE/1276-1123-2-ND/3886781; TemperatureCoefficient: X7R; Voltage: 50V; Price: 0.029; Device Package: 0805 (2012 Metric)
footprint CAP 0805/2012
pins: 1, 2

## CL21B334KOCNNNC
designator C?, comment 0.33uF
CAP CER 0.33UF 16V X7R 0805; Part Number: CL21B334KOCNNNC; Manufacturer: Samsung Electro-Mechanics America, Inc.; TemperatureRange: -55C ~ 125C; Tolerance: 10%; Value: 0.33uF; PartId: 5916; Supplier 1: Digi-Key; Supplier Part Number 1: 1276-1797-2-ND; ComponentLink1Description: Datasheet; ComponentLink1URL: http://www.samsungsem.com/kr/support/product-search/mlcc/CL21B334KOCNNNC.jsp; ComponentLink2Description: Digi-Key listing; ComponentLink2URL: http://digikey.com/product-detail/en/CL21B334KOCNNNC/1276-1797-2-ND/3887455; TemperatureCoefficient: X7R; Voltage: 16V; Price: 0.0386; Type: -; Device Package: 0805 (2012 Metric)
footprint CAP 0805/2012
pins: 1, 2

## CL21B391KBANNNC
designator C?, comment 390pF
CAP CER 390PF 50V X7R 0805; Part Number: CL21B391KBANNNC; Manufacturer: Samsung Electro-Mechanics America, Inc.; TemperatureRange: -55C ~ 125C; Tolerance: 10%; Value: 390pF; PartId: 5742; Supplier 1: Digi-Key; Supplier Part Number 1: 1276-2510-2-ND; ComponentLink1Description: Datasheet; ComponentLink1URL: http://www.samsungsem.com/kr/support/product-search/mlcc/CL21B391KBANNNC.jsp; ComponentLink2Description: Digi-Key listing; ComponentLink2URL: http://digikey.com/product-detail/en/CL21B391KBANNNC/1276-2510-2-ND/3888168; TemperatureCoefficient: X7R; Voltage: 50V; Price: 0.0153; Type: -; Device Package: 0805 (2012 Metric)
footprint CAP 0805/2012
pins: 1, 2

## CL21B392KBANFNC
designator C?, comment 3900pF
CAP CER 3900PF 50V X7R 0805; Part Number: CL21B392KBANFNC; Manufacturer: Samsung Electro-Mechanics America, Inc.; TemperatureRange: -55C ~ 125C; Tolerance: 10%; Value: 3900pF; PartId: 5735; Supplier 1: Digi-Key; Supplier Part Number 1: 1276-2511-2-ND; ComponentLink1Description: Datasheet; ComponentLink1URL: http://media.digikey.com/pdf/Data%20Sheets/Samsung%20PDFs/CL21B392KBANFNC_Spec.pdf; ComponentLink2Description: Digi-Key listing; ComponentLink2URL: http://digikey.com/product-detail/en/CL21B392KBANFNC/1276-2511-2-ND/3888169; TemperatureCoefficient: X7R; Voltage: 50V; Price: 0.015; Type: -; Device Package: 0805 (2012 Metric)
footprint CAP 0805/2012
pins: 1, 2

## CL21B393KBANNNC
designator C?, comment 0.039uF
CAP CER 0.039UF 50V X7R 0805; Part Number: CL21B393KBANNNC; Manufacturer: Samsung Electro-Mechanics America, Inc.; TemperatureRange: -55C ~ 125C; Tolerance: 10%; Value: 0.039uF; PartId: 5862; Supplier 1: Digi-Key; Supplier Part Number 1: 1276-2513-2-ND; ComponentLink1Description: Datasheet; ComponentLink1URL: http://www.samsungsem.com/kr/support/product-search/mlcc/CL21B393KBANNNC.jsp; ComponentLink2Description: Digi-Key listing; ComponentLink2URL: http://digikey.com/product-detail/en/CL21B393KBANNNC/1276-2513-2-ND/3888171; TemperatureCoefficient: X7R; Voltage: 50V; Price: 0.0277; Type: -; Device Package: 0805 (2012 Metric)
footprint CAP 0805/2012
pins: 1, 2

## CL21B471JBANNNC
designator C?, comment 470pF
CAP CER 470PF 50V X7R 0805; Part Number: CL21B471JBANNNC; Manufacturer: Samsung Electro-Mechanics America, Inc.; TemperatureRange: -55C ~ 125C; Tolerance: 5%; Value: 470pF; PartId: 5833; Supplier 1: Digi-Key; Supplier Part Number 1: 1276-2514-2-ND; ComponentLink1Description: Datasheet; ComponentLink1URL: http://www.samsungsem.com/kr/support/product-search/mlcc/CL21B471JBANNNC.jsp; ComponentLink2Description: Digi-Key listing; ComponentLink2URL: http://digikey.com/product-detail/en/CL21B471JBANNNC/1276-2514-2-ND/3888172; TemperatureCoefficient: X7R; Voltage: 50V; Price: 0.023; Type: -; Device Package: 0805 (2012 Metric)
footprint CAP 0805/2012
pins: 1, 2

## CL21B471KBANNNC
designator C?, comment 470pF
CAP CER 470PF 50V X7R 0805; Part Number: CL21B471KBANNNC; Manufacturer: Samsung Electro-Mechanics America, Inc.; TemperatureRange: -55C ~ 125C; Tolerance: 10%; Value: 470pF; PartId: 14131; Supplier 1: Digi-Key; Supplier Part Number 1: 1276-1300-2-ND; ComponentLink1Description: Datasheet; ComponentLink1URL: http://www.samsungsem.com/kr/support/product-search/mlcc/CL21B471KBANNNC.jsp; ComponentLink2Description: Digi-Key Listing; ComponentLink2URL: https://www.digikey.com/product-detail/en/samsung-electro-mechanics-america-inc/CL21B471KBANNNC/1276-1300-2-ND/3886958; TemperatureCoefficient: X7R; Voltage: 50V; Price: 0.0101; Device Package: 0805 (2012 Metric)
footprint CAP 0805/2012
pins: 1, 2

## CL21B471KCANNNC
designator C?, comment 470pF
CAP CER 470PF 100V X7R 0805; Part Number: CL21B471KCANNNC; Manufacturer: Samsung Electro-Mechanics America, Inc.; TemperatureRange: -55C ~ 125C; Tolerance: 10%; Value: 470pF; PartId: 14181; Supplier 1: Digi-Key; Supplier Part Number 1: 1276-2516-2-ND; ComponentLink1Description: Datasheet; ComponentLink1URL: //media.digikey.com/pdf/Data%20Sheets/Samsung%20PDFs/CL21B471KCANNNC_Spec.pdf; ComponentLink2Description: Digi-Key Listing; ComponentLink2URL: https://www.digikey.com/product-detail/en/samsung-electro-mechanics-america-inc/CL21B471KCANNNC/1276-2516-2-ND/3888174; TemperatureCoefficient: X7R; Voltage: 100V; Price: 0.017; Device Package: 0805 (2012 Metric)
footprint CAP 0805/2012
pins: 1, 2

## CL21B472JBANNNC
designator C?, comment 4700pF
CAP CER 4700PF 50V X7R 0805; Part Number: CL21B472JBANNNC; Manufacturer: Samsung Electro-Mechanics America, Inc.; TemperatureRange: -55C ~ 125C; Tolerance: 5%; Value: 4700pF; PartId: 5831; Supplier 1: Digi-Key; Supplier Part Number 1: 1276-2519-2-ND; ComponentLink1Description: Datasheet; ComponentLink1URL: http://www.samsungsem.com/kr/support/product-search/mlcc/CL21B472JBANNNC.jsp; ComponentLink2Description: Digi-Key listing; ComponentLink2URL: http://digikey.com/product-detail/en/CL21B472JBANNNC/1276-2519-2-ND/3888177; TemperatureCoefficient: X7R; Voltage: 50V; Price: 0.023; Type: -; Device Package: 0805 (2012 Metric)
footprint CAP 0805/2012
pins: 1, 2

## CL21B472KBANNNC
designator C?, comment 4700pF
CAP CER 4700PF 50V X7R 0805; Part Number: CL21B472KBANNNC; Manufacturer: Samsung Electro-Mechanics America, Inc.; TemperatureRange: -55C ~ 125C; Tolerance: 10%; Value: 4700pF; PartId: 14058; Supplier 1: Digi-Key; Supplier Part Number 1: 1276-1155-2-ND; ComponentLink1Description: Datasheet; ComponentLink1URL: http://www.samsungsem.com/kr/support/product-search/mlcc/CL21B472KBANNNC.jsp; ComponentLink2Description: Digi-Key Listing; ComponentLink2URL: https://www.digikey.com/product-detail/en/samsung-electro-mechanics-america-inc/CL21B472KBANNNC/1276-1155-2-ND/3886813; TemperatureCoefficient: X7R; Voltage: 50V; Price: 0.0089; Device Package: 0805 (2012 Metric)
footprint CAP 0805/2012
pins: 1, 2

## CL21B473KBCNNNC
designator C?, comment 0.047uF
CAP CER 0.047UF 50V X7R 0805; Part Number: CL21B473KBCNNNC; Manufacturer: Samsung Electro-Mechanics America, Inc.; TemperatureRange: -55C ~ 125C; Tolerance: 10%; Value: 0.047uF; PartId: 14026; Supplier 1: Digi-Key; Supplier Part Number 1: 1276-1250-2-ND; ComponentLink1Description: Datasheet; ComponentLink1URL: http://www.samsungsem.com/kr/support/product-search/mlcc/CL21B473KBCNNNC.jsp; ComponentLink2Description: Digi-Key Listing; ComponentLink2URL: https://www.digikey.com/product-detail/en/samsung-electro-mechanics-america-inc/CL21B473KBCNNNC/1276-1250-2-ND/3886908; TemperatureCoefficient: X7R; Voltage: 50V; Price: 0.011; Device Package: 0805 (2012 Metric)
footprint CAP 0805/2012
pins: 1, 2

## CL21B473KBCSFNC
designator C?, comment 0.047uF
CAP CER 0.047UF 50V X7R 0805; Part Number: CL21B473KBCSFNC; Manufacturer: Samsung Electro-Mechanics America, Inc.; TemperatureRange: -55C ~ 125C; Tolerance: 10%; Value: 0.047uF; PartId: 14161; Supplier 1: Digi-Key; Supplier Part Number 1: 1276-2531-2-ND; ComponentLink1Description: Datasheet; ComponentLink1URL: //media.digikey.com/pdf/Data%20Sheets/Samsung%20PDFs/CL21B473KBCSFNC_Spec.pdf; ComponentLink2Description: Digi-Key Listing; ComponentLink2URL: https://www.digikey.com/product-detail/en/samsung-electro-mechanics-america-inc/CL21B473KBCSFNC/1276-2531-2-ND/3888189; TemperatureCoefficient: X7R; Voltage: 50V; Price: 0.011; Device Package: 0805 (2012 Metric)
footprint CAP 0805/2012
pins: 1, 2

## CL21B473KCC5PNC
designator C?, comment 0.047uF
CAP CER 0.047UF 100V X7R 0805; Part Number: CL21B473KCC5PNC; Manufacturer: Samsung Electro-Mechanics America, Inc.; TemperatureRange: -55C ~ 125C; Tolerance: 10%; Value: 0.047uF; PartId: 14295; Supplier 1: Digi-Key; Supplier Part Number 1: 1276-2532-2-ND; ComponentLink1Description: Datasheet; ComponentLink1URL: //media.digikey.com/pdf/Data%20Sheets/Samsung%20PDFs/CL21B473KCC5PNC_Spec.pdf; ComponentLink2Description: Digi-Key Listing; ComponentLink2URL: https://www.digikey.com/product-detail/en/samsung-electro-mechanics-america-inc/CL21B473KCC5PNC/1276-2532-2-ND/3888190; TemperatureCoefficient: X7R; Voltage: 100V; Price: 0.0212; Device Package: 0805 (2012 Metric)
footprint CAP 0805/2012
pins: 1, 2

## CL21B474JAFNNNE
designator C?, comment 0.47uF
CAP CER 0.47UF 25V X7R 0805; Part Number: CL21B474JAFNNNE; Manufacturer: Samsung Electro-Mechanics America, Inc.; TemperatureRange: -55C ~ 125C; Tolerance: 5%; Value: 0.47uF; PartId: 6019; Supplier 1: Digi-Key; Supplier Part Number 1: 1276-2961-2-ND; ComponentLink1Description: Datasheet; ComponentLink1URL: http://www.samsungsem.com/kr/support/product-search/mlcc/CL21B474JAFNNNE.jsp; ComponentLink2Description: Digi-Key listing; ComponentLink2URL: http://digikey.com/product-detail/en/CL21B474JAFNNNE/1276-2961-2-ND/3888619; TemperatureCoefficient: X7R; Voltage: 25V; Price: 0.0717; Type: -; Device Package: 0805 (2012 Metric)
footprint CAP 0805/2012
pins: 1, 2

## CL21B474KAFNNNE
designator C?, comment 0.47uF
CAP CER 0.47UF 25V X7R 0805; Part Number: CL21B474KAFNNNE; Manufacturer: Samsung Electro-Mechanics America, Inc.; TemperatureRange: -55C ~ 125C; Tolerance: 10%; Value: 0.47uF; PartId: 13977; Supplier 1: Digi-Key; Supplier Part Number 1: 1276-1074-2-ND; ComponentLink1Description: Datasheet; ComponentLink1URL: http://www.samsungsem.com/kr/support/product-search/mlcc/CL21B474KAFNNNE.jsp; ComponentLink2Description: Digi-Key Listing; ComponentLink2URL: https://www.digikey.com/product-detail/en/samsung-electro-mechanics-america-inc/CL21B474KAFNNNE/1276-1074-2-ND/3886732; TemperatureCoefficient: X7R; Voltage: 25V; Price: 0.0199; Device Package: 0805 (2012 Metric)
footprint CAP 0805/2012
pins: 1, 2

## CL21B474KBFNNNE
designator C?, comment 0.47uF
CAP CER 0.47UF 50V X7R 0805; Part Number: CL21B474KBFNNNE; Manufacturer: Samsung Electro-Mechanics America, Inc.; TemperatureRange: -55C ~ 125C; Tolerance: 10%; Value: 0.47uF; PartId: 13830; Supplier 1: Digi-Key; Supplier Part Number 1: 1276-1039-2-ND; ComponentLink1Description: Datasheet; ComponentLink1URL: http://www.samsungsem.com/kr/support/product-search/mlcc/CL21B474KBFNNNE.jsp; ComponentLink2Description: Digi-Key Listing; ComponentLink2URL: https://www.digikey.com/product-detail/en/samsung-electro-mechanics-america-inc/CL21B474KBFNNNE/1276-1039-2-ND/3886697; TemperatureCoefficient: X7R; Voltage: 50V; Price: 0.0475; Device Package: 0805 (2012 Metric)
footprint CAP 0805/2012
pins: 1, 2

## CL21B474KOFNNNE
designator C?, comment 0.47uF
CAP CER 0.47UF 16V X7R 0805; Part Number: CL21B474KOFNNNE; Manufacturer: Samsung Electro-Mechanics America, Inc.; TemperatureRange: -55C ~ 125C; Tolerance: 10%; Value: 0.47uF; PartId: 5854; Supplier 1: Digi-Key; Supplier Part Number 1: 1276-1199-2-ND; ComponentLink1Description: Datasheet; ComponentLink1URL: http://www.samsungsem.com/kr/support/product-search/mlcc/CL21B474KOFNNNE.jsp; ComponentLink2Description: Digi-Key listing; ComponentLink2URL: http://digikey.com/product-detail/en/CL21B474KOFNNNE/1276-1199-2-ND/3886857; TemperatureCoefficient: X7R; Voltage: 16V; Price: 0.0251; Type: -; Device Package: 0805 (2012 Metric)
footprint CAP 0805/2012
pins: 1, 2

## CL21B475KAFNNNE
designator C?, comment 4.7uF
CAP CER 4.7UF 25V X7R 0805; Part Number: CL21B475KAFNNNE; Manufacturer: Samsung Electro-Mechanics America, Inc.; TemperatureRange: -55C ~ 125C; Tolerance: 10%; Value: 4.7uF; PartId: 14191; Supplier 1: Digi-Key; Supplier Part Number 1: 1276-2969-2-ND; ComponentLink1Description: Datasheet; ComponentLink1URL: //media.digikey.com/pdf/Data%20Sheets/Samsung%20PDFs/CL21B475KAFNNNE_Spec.pdf; ComponentLink2Description: Digi-Key Listing; ComponentLink2URL: https://www.digikey.com/product-detail/en/samsung-electro-mechanics-america-inc/CL21B475KAFNNNE/1276-2969-2-ND/3888627; TemperatureCoefficient: X7R; Voltage: 25V; Price: 0.0834; Device Package: 0805 (2012 Metric)
footprint CAP 0805/2012
pins: 1, 2

## CL21B475KOFNFNE
designator C?, comment 4.7uF
CAP CER 4.7UF 16V X7R 0805; Part Number: CL21B475KOFNFNE; Manufacturer: Samsung Electro-Mechanics America, Inc.; TemperatureRange: -55C ~ 125C; Tolerance: 10%; Value: 4.7uF; PartId: 14257; Supplier 1: Digi-Key; Supplier Part Number 1: 1276-2970-2-ND; ComponentLink1Description: Datasheet; ComponentLink1URL: //media.digikey.com/pdf/Data%20Sheets/Samsung%20PDFs/CL21B475KOFNFNE_Spec.pdf; ComponentLink2Description: Digi-Key Listing; ComponentLink2URL: https://www.digikey.com/product-detail/en/samsung-electro-mechanics-america-inc/CL21B475KOFNFNE/1276-2970-2-ND/3888628; TemperatureCoefficient: X7R; Voltage: 16V; Price: 0.0506; Device Package: 0805 (2012 Metric)
footprint CAP 0805/2012
pins: 1, 2

## CL21B475KOFNNNE
designator C?, comment 4.7uF
CAP CER 4.7UF 16V X7R 0805; Part Number: CL21B475KOFNNNE; Manufacturer: Samsung Electro-Mechanics America, Inc.; TemperatureRange: -55C ~ 125C; Tolerance: 10%; Value: 4.7uF; PartId: 14104; Supplier 1: Digi-Key; Supplier Part Number 1: 1276-2873-2-ND; ComponentLink1Description: Datasheet; ComponentLink1URL: http://www.samsungsem.com/kr/support/product-search/mlcc/CL21B475KOFNNNE.jsp; ComponentLink2Description: Digi-Key Listing; ComponentLink2URL: https://www.digikey.com/product-detail/en/samsung-electro-mechanics-america-inc/CL21B475KOFNNNE/1276-2873-2-ND/3888531; TemperatureCoefficient: X7R; Voltage: 16V; Price: 0.0513; Device Package: 0805 (2012 Metric)
footprint CAP 0805/2012
pins: 1, 2

## CL21B475KPFNNNE
designator C?, comment 4.7uF
CAP CER 4.7UF 10V X7R 0805; Part Number: CL21B475KPFNNNE; Manufacturer: Samsung Electro-Mechanics America, Inc.; TemperatureRange: -55C ~ 125C; Tolerance: 10%; Value: 4.7uF; PartId: 13993; Supplier 1: Digi-Key; Supplier Part Number 1: 1276-2972-2-ND; ComponentLink1Description: Datasheet; ComponentLink1URL: http://www.samsungsem.com/kr/support/product-search/mlcc/CL21B475KPFNNNE.jsp; ComponentLink2Description: Digi-Key Listing; ComponentLink2URL: https://www.digikey.com/product-detail/en/samsung-electro-mechanics-america-inc/CL21B475KPFNNNE/1276-2972-2-ND/3888630; TemperatureCoefficient: X7R; Voltage: 10V; Price: 0.0363; Device Package: 0805 (2012 Metric)
footprint CAP 0805/2012
pins: 1, 2

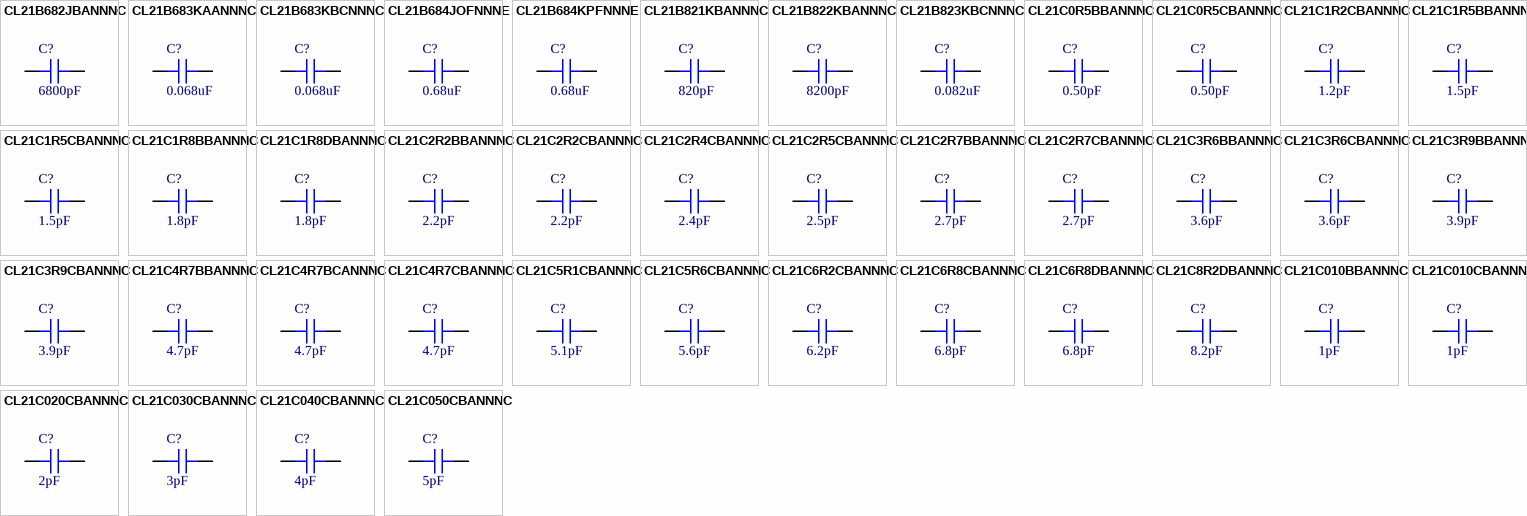
[diagram p20: symbols CL21B682JBANNNC to CL21C050CBANNNC]

## CL21B682JBANNNC
designator C?, comment 6800pF
CAP CER 6800PF 50V X7R 0805; Part Number: CL21B682JBANNNC; Manufacturer: Samsung Electro-Mechanics America, Inc.; TemperatureRange: -55C ~ 125C; Tolerance: 5%; Value: 6800pF; PartId: 5834; Supplier 1: Digi-Key; Supplier Part Number 1: 1276-2539-2-ND; ComponentLink1Description: Datasheet; ComponentLink1URL: http://www.samsungsem.com/kr/support/product-search/mlcc/CL21B682JBANNNC.jsp; ComponentLink2Description: Digi-Key listing; ComponentLink2URL: http://digikey.com/product-detail/en/CL21B682JBANNNC/1276-2539-2-ND/3888197; TemperatureCoefficient: X7R; Voltage: 50V; Price: 0.023; Type: -; Device Package: 0805 (2012 Metric)
footprint CAP 0805/2012
pins: 1, 2

## CL21B683KAANNNC
designator C?, comment 0.068uF
CAP CER 0.068UF 25V X7R 0805; Part Number: CL21B683KAANNNC; Manufacturer: Samsung Electro-Mechanics America, Inc.; TemperatureRange: -55C ~ 125C; Tolerance: 10%; Value: 0.068uF; PartId: 5878; Supplier 1: Digi-Key; Supplier Part Number 1: 1276-2541-2-ND; ComponentLink1Description: Datasheet; ComponentLink1URL: http://www.samsungsem.com/kr/support/product-search/mlcc/CL21B683KAANNNC.jsp; ComponentLink2Description: Digi-Key listing; ComponentLink2URL: http://digikey.com/product-detail/en/CL21B683KAANNNC/1276-2541-2-ND/3888199; TemperatureCoefficient: X7R; Voltage: 25V; Price: 0.0308; Type: -; Device Package: 0805 (2012 Metric)
footprint CAP 0805/2012
pins: 1, 2

## CL21B683KBCNNNC
designator C?, comment 0.068uF
CAP CER 0.068UF 50V X7R 0805; Part Number: CL21B683KBCNNNC; Manufacturer: Samsung Electro-Mechanics America, Inc.; TemperatureRange: -55C ~ 125C; Tolerance: 10%; Value: 0.068uF; PartId: 5867; Supplier 1: Digi-Key; Supplier Part Number 1: 1276-1251-2-ND; ComponentLink1Description: Datasheet; ComponentLink1URL: http://www.samsungsem.com/kr/support/product-search/mlcc/CL21B683KBCNNNC.jsp; ComponentLink2Description: Digi-Key listing; ComponentLink2URL: http://digikey.com/product-detail/en/CL21B683KBCNNNC/1276-1251-2-ND/3886909; TemperatureCoefficient: X7R; Voltage: 50V; Price: 0.0286; Type: -; Device Package: 0805 (2012 Metric)
footprint CAP 0805/2012
pins: 1, 2

## CL21B684JOFNNNE
designator C?, comment 0.68uF
CAP CER 0.68UF 16V X7R 0805; Part Number: CL21B684JOFNNNE; Manufacturer: Samsung Electro-Mechanics America, Inc.; TemperatureRange: -55C ~ 125C; Tolerance: 5%; Value: 0.68uF; PartId: 5873; Supplier 1: Digi-Key; Supplier Part Number 1: 1276-2976-2-ND; ComponentLink1Description: Datasheet; ComponentLink1URL: http://www.samsungsem.com/kr/support/product-search/mlcc/CL21B684JOFNNNE.jsp; ComponentLink2Description: Digi-Key listing; ComponentLink2URL: http://digikey.com/product-detail/en/CL21B684JOFNNNE/1276-2976-2-ND/3888634; TemperatureCoefficient: X7R; Voltage: 16V; Price: 0.0299; Type: -; Device Package: 0805 (2012 Metric)
footprint CAP 0805/2012
pins: 1, 2